# Altium schematic symbol library KN_ECART.SchLib: 34 symbols
Pins are listed as number, name and electrical type; pins without a type are passive.

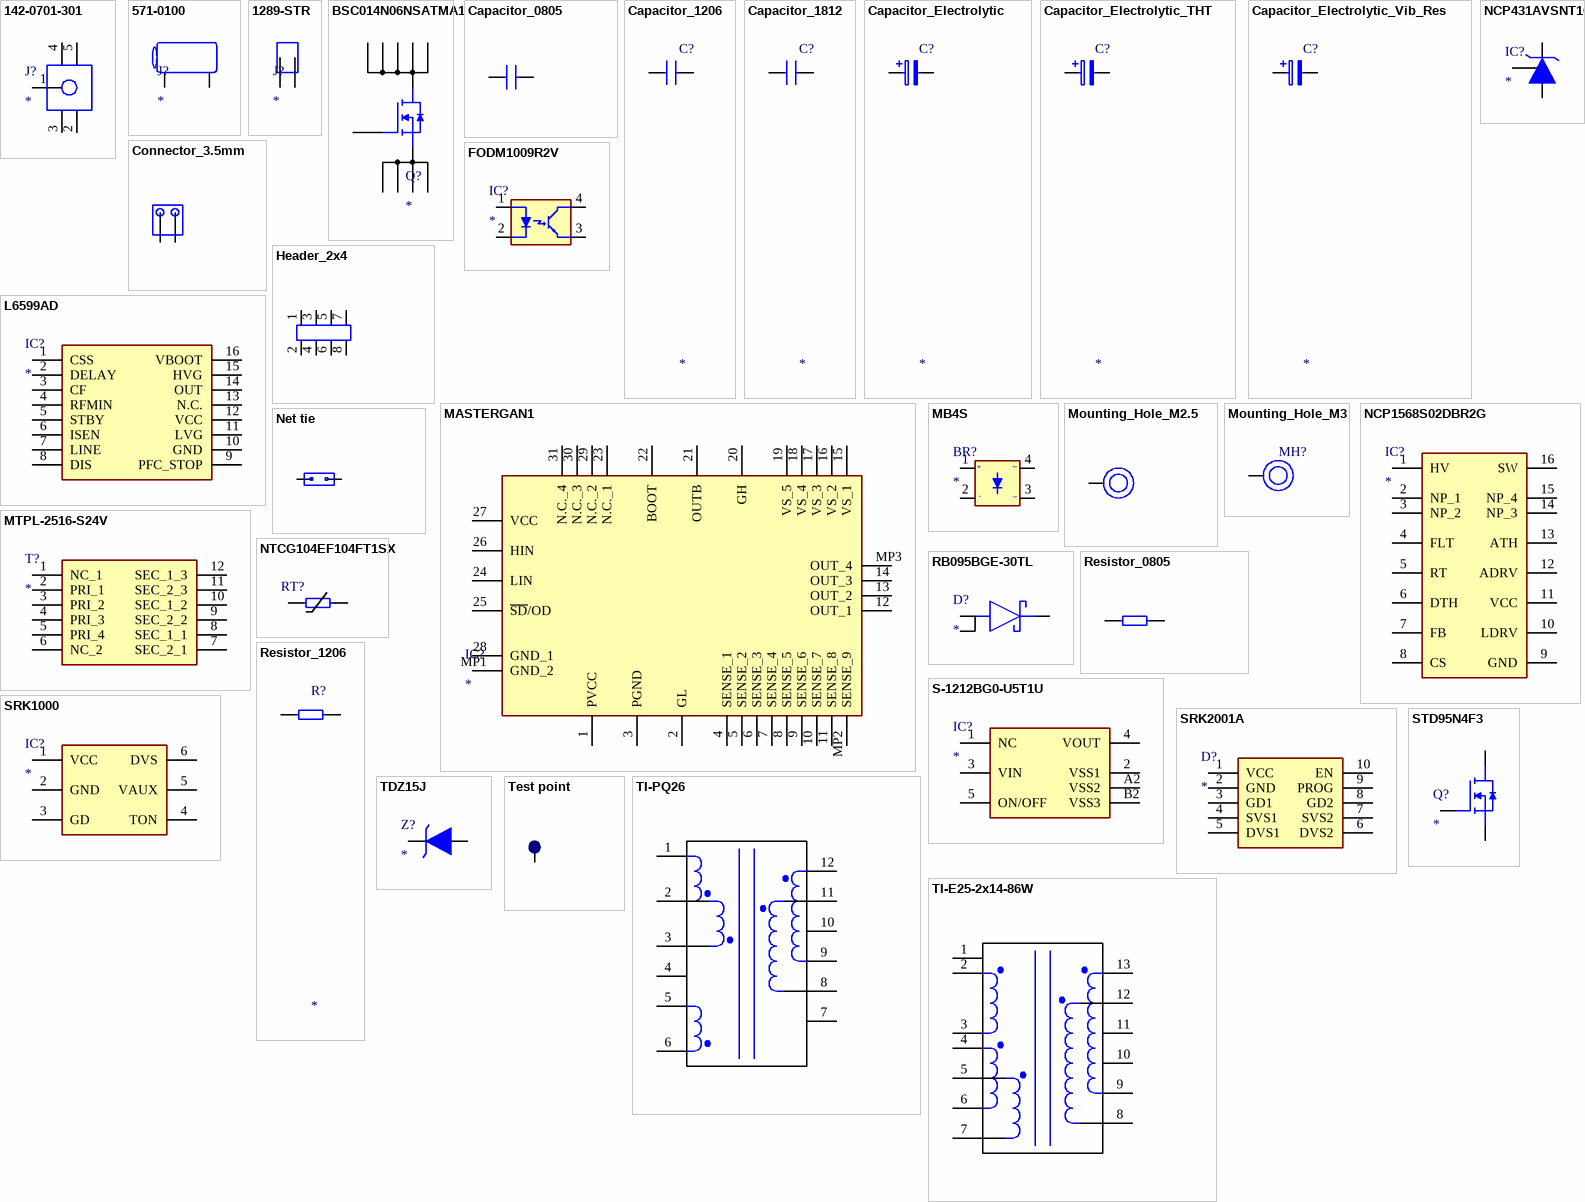
[diagram p0: symbols 142-0701-301 to TI­E25­2x14­86W]

## 142-0701-301
designator J?
Connector; Manufacturer_Name: Cinch Connectivity Solutions; Manufacturer_Part_Number: 142-0701-301; Datasheet Link: https://datasheet.datasheetarchive.com/originals/distributors/Datasheets_SAMA/2ec9b041f970d014d2778887508fd87c.pdf; Height: 9.779mm; Mouser Part Number: 530-142-0701-301; Mouser Price/Stock: https://www.mouser.co.uk/ProductDetail/Johnson-Cinch-Connectivity-Solutions/142-0701-301?qs=VqHsQWpF6un5h9kBF%252BTxDw%3D%3D; Arrow Part Number: 142-0701-301; Arrow Price/Stock: https://www.arrow.com/en/products/142-0701-301/cinch-connectivity-solutions?region=nac
footprint 1420701301
pins: 1, 2, 3, 4, 5

## 571-0100
designator J?
Connector; Manufacturer_Name: DELTRON COMPONENTS; Manufacturer_Part_Number: 571-0100; Datasheet Link: https://www.dem-uk.com/deltron-components/Data/Product_Downloads/deltron-571-0100-4mm-90deg-single-socket-data.pdf; Height: 12.4mm; Mouser Part Number: 164-6218; Mouser Price/Stock: https://www.mouser.co.uk/ProductDetail/Deltron/571-0100?qs=E2gf03EXmtoqC8%2FBhoPdrg%3D%3D
footprint 5710100
pins: 1, 2 (power)

## 1289-STR
designator J?
Connector; Manufacturer_Name: Keystone Electronics; Manufacturer_Part_Number: 1289-STR; Datasheet Link: https://www.mouser.com/datasheet/2/215/Keystone_Electronics_12182018_1289-ST-1510776.pdf; Height: 14.37mm; Mouser Part Number: 534-1289-STR; Mouser Price/Stock: https://www.mouser.co.uk/ProductDetail/Keystone-Electronics/1289-STR?qs=0lSvoLzn4L%252BMUIbPVNHg8g%3D%3D
footprint 1289STR
pins: 1, 2

## BSC014N06NSATMA1
designator Q?
MOSFET (N-Channel); Manufacturer_Name: Infineon; Manufacturer_Part_Number: BSC014N06NSATMA1; Datasheet Link: http://www.farnell.com/datasheets/1849651.html; Height: 1.1mm; Mouser Part Number: 726-BSC014N06NSATMA1; Mouser Price/Stock: https://www.mouser.co.uk/ProductDetail/Infineon-Technologies/BSC014N06NSATMA1?qs=K00xGehIljshgUA78G26tg%3D%3D; Arrow Part Number: BSC014N06NSATMA1; Arrow Price/Stock: https://www.arrow.com/en/products/bsc014n06nsatma1/infineon-technologies-ag
footprint BSC010N04LS6ATMA1
pins: 1 S_1, 2 S_2, 3 S_3, 4 G, 5 D_1, 6 D_2, 7 D_3, 8 D_4, 9 D_5, 10 S_4

## Capacitor_0805
designator C?
Capacitor - Standard SMD; Capacitance: *; Voltage: *; MPN: *
footprint Capacitor_0805 (Capacitor - standard SMD)
pins: 1, 2

## Capacitor_1206
designator C?
Capacitor - Standard SMD; Capacitance: *; Voltage: *; MPN: *
footprint Capcitor_1206 (Capacitor - Stnadard SMD)
pins: 1, 2

## Capacitor_1812
designator C?
Capacitor - Standard SMD; Capacitance: *; Voltage: *; MPN: *
footprint Capacitor_1812 (Capacitor - Stnadard SMD)
pins: 1, 2

## Capacitor_Electrolytic
designator C?
Capacitor - Electrolytic  SMD; Capacitance: *; Voltage: *; MPN: *
footprint Capacitor_Electrolytic (Footprint not found)
pins: 1, 2

## Capacitor_Electrolytic_THT
designator C?
Capacitor - Electrolytic  THT; Capacitance: *; Voltage: *; MPN: *
footprint CAPPRD500W60D1300H2700
pins: 1, 2

## Capacitor_Electrolytic_Vib_Res
designator C?
Capacitor - Electrolytic  SMD; Capacitance: *; Voltage: *; MPN: *
footprint Capacitor_Electrolytic_Vib_Res (Capacitor _ Electrolytic SMD)
pins: 1, 2

## Connector_3.5mm
designator J?
Value: *; HelpURL: *; MPN: *
footprint Connector_3.5 (Connector)
pins: 1, 2

## FODM1009R2V
designator IC?
Integrated Circuit; Manufacturer_Name: onsemi; Manufacturer_Part_Number: FODM1009R2V; Datasheet Link: https://componentsearchengine.com/Datasheets/1/FODM1009R2V.pdf; Height: 2.4mm; Mouser Part Number: 863-FODM1009R2V; Mouser Price/Stock: https://www.mouser.co.uk/ProductDetail/onsemi/FODM1009R2V?qs=d0WKAl%252BL4Kbb4VetG0t5Tw%3D%3D; Arrow Part Number: FODM1009R2V; Arrow Price/Stock: https://www.arrow.com/en/products/fodm1009r2v/on-semiconductor?region=nac
footprint FODM1009R2V
pins: 1 A, 2 K, 3 E, 4 C

## Header_2x4
designator J?
HelpURL: *; MPN: *
footprint Header_2x4 (Goldpins Male)
pins: 1, 2, 3, 4, 5, 6, 7, 8

## L6599AD
designator IC?
Integrated Circuit; Manufacturer_Name: STMicroelectronics; Manufacturer_Part_Number: L6599AD; Datasheet Link: https://www.st.com/resource/en/datasheet/l6599a.pdf; Height: 1.75mm; Mouser Part Number: 511-L6599AD; Mouser Price/Stock: https://www.mouser.co.uk/ProductDetail/STMicroelectronics/L6599AD?qs=7o0qgsFWxcZfFVshD8Fr5g%3D%3D; Arrow Part Number: L6599AD; Arrow Price/Stock: https://www.arrow.com/en/products/l6599ad/stmicroelectronics?region=nac
footprint SOIC127P600X175-16N
pins: 1 CSS, 2 DELAY, 3 CF, 4 RFMIN, 5 STBY, 6 ISEN, 7 LINE, 8 DIS, 9 PFC_STOP, 10 GND, 11 LVG, 12 VCC, 13 N.C., 14 OUT, 15 HVG, 16 VBOOT

## MASTERGAN1
designator IC?
Integrated Circuit; Manufacturer_Name: STMicroelectronics; Manufacturer_Part_Number: MASTERGAN1; Datasheet Link: https://www.mouser.com/datasheet/2/389/mastergan1-1893186.pdf; Height: 1mm; Mouser Part Number: 511-MASTERGAN1; Mouser Price/Stock: https://www.mouser.co.uk/ProductDetail/STMicroelectronics/MASTERGAN1?qs=hWgE7mdIu5TUQlvSzk235A%3D%3D; Arrow Part Number: MASTERGAN1; Arrow Price/Stock: https://www.arrow.com/en/products/mastergan1/stmicroelectronics?region=nac
footprint MASTERGAN1
pins: 1 PVCC, 2 GL, 3 PGND, 4 SENSE_1, 5 SENSE_2, 6 SENSE_3, 7 SENSE_4, 8 SENSE_5, 9 SENSE_6, 10 SENSE_7, 11 SENSE_8, 12 OUT_1, 13 OUT_2, 14 OUT_3, 15 VS_1, 16 VS_2, 17 VS_3, 18 VS_4, 19 VS_5, 20 GH, 21 OUTB, 22 BOOT, 23 N.C._1, 24 LIN, 25 ~{SD}/OD, 26 HIN, 27 VCC, 28 GND_1, 29 N.C._2, 30 N.C._3, 31 N.C._4, MP1 GND_2, MP2 SENSE_9, MP3 OUT_4

## MB4S
designator BR?
Bridge Rectifier; Manufacturer_Name: onsemi; Manufacturer_Part_Number: MB4S; Datasheet Link: http://www.onsemi.com/pub/Collateral/MB8S-D.PDF; Height: 2.9mm; Mouser Part Number: 512-MB4S; Mouser Price/Stock: https://www.mouser.co.uk/ProductDetail/onsemi-Fairchild/MB4S?qs=DPwKKv7J1fyzyqMN%2FwPoFQ%3D%3D; Arrow Part Number: MB4S; Arrow Price/Stock: https://www.arrow.com/en/products/mb4s/on-semiconductor?region=europe
footprint SOP245P670X290-4N
pins: 1, 2, 3, 4
text: +; ~; -

## Mounting_Hole_M2.5
designator MH?  (value not drawn)  (no BOM)
footprint Mounting_Hole_M2.5
pins: 1

## Mounting_Hole_M3
designator MH?  (value not drawn)  (no BOM)
footprint Mounting_Hole_M3
pins: 1

## MTPL-2516-S24V
designator T?
Transformer; Manufacturer_Name: Vishay; Manufacturer_Part_Number: MTPL-2516-S24V; Datasheet Link: https://componentsearchengine.com/Datasheets/2/MTPL-2516-S24V.pdf; Height: 16.51mm; Mouser Part Number: 70-MTPL-2516-S24V; Mouser Price/Stock: https://www.mouser.co.uk/ProductDetail/Vishay-Dale/MTPL-2516-S24V?qs=wd5RIQLrsJgVmtJW6evrjA%3D%3D
footprint MTPL2516S24V
pins: 1 NC_1, 2 PRI_1, 3 PRI_2, 4 PRI_3, 5 PRI_4, 6 NC_2, 7 SEC_2_1, 8 SEC_1_1, 9 SEC_2_2, 10 SEC_1_2, 11 SEC_2_3, 12 SEC_1_3

## NCP431AVSNT1G
designator IC?
Programmable Precision / Reference; Manufacturer_Name: onsemi; Manufacturer_Part_Number: NCP431AVSNT1G; Datasheet Link: http://www.onsemi.com/pub/Collateral/NCP431-D.PDF; Height: 1.11mm; Mouser Part Number: 863-NCP431AVSNT1G; Mouser Price/Stock: https://www.mouser.com/Search/Refine.aspx?Keyword=863-NCP431AVSNT1G; Arrow Part Number: NCP431AVSNT1G; Arrow Price/Stock: https://www.arrow.com/en/products/ncp431avsnt1g/on-semiconductor
footprint SOT96P237X111-3N
pins: 1 REF, 2 K, 3 A

## NCP1568S02DBR2G
designator IC?
Integrated Circuit; Manufacturer_Name: onsemi; Manufacturer_Part_Number: NCP1568S02DBR2G; Datasheet Link: https://datasheet.datasheetarchive.com/originals/distributors/Datasheets_SAMA/e6c73cfd9b14743cc4dd16ca5df3e455.pdf; Height: 1.35mm; Mouser Part Number: 863-NCP1568S02DBR2G; Mouser Price/Stock: https://www.mouser.co.uk/ProductDetail/onsemi/NCP1568S02DBR2G?qs=BJlw7L4Cy7%252Bni9d8vX6s0A%3D%3D; Arrow Part Number: NCP1568S02DBR2G; Arrow Price/Stock: https://www.arrow.com/en/products/ncp1568s02dbr2g/on-semiconductor?region=nac
footprint SOIC127P600X175-16N
pins: 1 HV, 2 NP_1, 3 NP_2, 4 FLT, 5 RT, 6 DTH, 7 FB, 8 CS, 9 GND, 10 LDRV, 11 VCC, 12 ADRV, 13 ATH, 14 NP_3, 15 NP_4, 16 SW

## Net tie
designator NT?  (net tie, no BOM)
footprint Net tie (Net tie - SMD short)
pins: 1, 2

## NTCG104EF104FT1SX
designator RT?  (value not drawn)
Thermistor; Manufacturer_Name: TDK; Manufacturer_Part_Number: NTCG104EF104FT1SX; Datasheet Link: https://product.tdk.com/system/files/dam/doc/product/sensor/ntc/chip-ntc-thermistor/catalog/tpd_automotive_ntc-thermistor_ntcg_en.pdf; Height: 0.55mm; Mouser Part Number: 810-NTC104EF104FT1SX; Mouser Price/Stock: https://www.mouser.co.uk/ProductDetail/TDK/NTCG104EF104FT1SX?qs=cNoPOocMWw25zdFQn%252B2tmg%3D%3D; Arrow Part Number: NTCG104EF104FT1SX; Arrow Price/Stock: https://www.arrow.com/en/products/ntcg104ef104ft1sx/tdk
footprint THRMC1005X55N
pins: 1, 2

## RB095BGE-30TL
designator D?
Diode; Manufacturer_Name: ROHM Semiconductor; Manufacturer_Part_Number: RB095BGE-30TL; Datasheet Link: https://fscdn.rohm.com/en/products/databook/datasheet/discrete/diode/schottky_barrier/rb095bge-30tl-e.pdf; Mouser Part Number: 755-RB095BGE-30TL; Mouser Price/Stock: https://www.mouser.co.uk/ProductDetail/ROHM-Semiconductor/RB095BGE-30TL?qs=gTYE2QTfZfT0xMzgoJJZow%3D%3D
footprint RD3P175SNFRATL
pins: 1 A_1, 2 K, 3 A_2

## Resistor_0805
designator R?
Resistor - Standard SMD; Resistance: *; Power rate: *; MPN: *
footprint Resistor_0805 (Resistor - Standard SMD)
pins: 1, 2

## Resistor_1206
designator R?
Resistor - Standard SMD; Resistance: *; Power rate: *; MPN: *
footprint Resistor_1206 (Resistor - Stnadard SMD)
pins: 1, 2

## S-1212BG0-U5T1U
designator IC?
Integrated Circuit; Manufacturer_Name: ABLIC Inc.; Manufacturer_Part_Number: S-1212BG0-U5T1U; Datasheet Link: https://www.mouser.com/datasheet/2/360/S1212B_D_E-1480071.pdf; Height: 1.6mm; Mouser Part Number: 628-S-1212BG0-U5T1U; Mouser Price/Stock: https://www.mouser.co.uk/ProductDetail/ABLIC/S-1212BG0-U5T1U?qs=PqoDHHvF648vInS7ukjfAw%3D%3D
footprint S1212BG0U5T1U
pins: 1 NC, 2 VSS1, 3 VIN, 4 VOUT, 5 ON/OFF, A2 VSS2, B2 VSS3

## SRK1000
designator IC?
Integrated Circuit; Manufacturer_Name: STMicroelectronics; Manufacturer_Part_Number: SRK1000; Datasheet Link: https://www.st.com/resource/en/datasheet/srk1000.pdf; Height: 1.45mm; Mouser Part Number: 511-SRK1000; Mouser Price/Stock: https://www.mouser.co.uk/ProductDetail/STMicroelectronics/SRK1000?qs=byeeYqUIh0P1pUk%2FLXsjaA%3D%3D; Arrow Part Number: SRK1000; Arrow Price/Stock: https://www.arrow.com/en/products/srk1000/stmicroelectronics
footprint SOT95P280X145-6N
pins: 1 VCC, 2 GND, 3 GD, 4 TON, 5 VAUX, 6 DVS

## SRK2001A
designator D?
Diode; Manufacturer_Name: STMicroelectronics; Manufacturer_Part_Number: SRK2001A; Datasheet Link: https://componentsearchengine.com/Datasheets/1/SRK2001A.pdf; Height: 1.75mm; Mouser Part Number: 511-SRK2001A; Mouser Price/Stock: https://www.mouser.co.uk/ProductDetail/STMicroelectronics/SRK2001A?qs=aVyJF2WnouTzNJDK1aOmdg%3D%3D; Arrow Part Number: SRK2001A; Arrow Price/Stock: https://www.arrow.com/en/products/srk2001a/stmicroelectronics
footprint SOIC127P600X175-8N
pins: 1 VCC, 2 GND, 3 GD1, 4 SVS1, 5 DVS1, 6 DVS2, 7 SVS2, 8 GD2, 9 PROG, 10 EN

## STD95N4F3
designator Q?
MOSFET (N-Channel); Manufacturer_Name: STMicroelectronics; Manufacturer_Part_Number: STD95N4F3; Datasheet Link: https://www.st.com/resource/en/datasheet/std95n4f3.pdf; Height: 2.4mm; Mouser Part Number: 511-STD95N4F3; Mouser Price/Stock: https://www.mouser.co.uk/ProductDetail/STMicroelectronics/STD95N4F3?qs=Djavi1aLnwoepdJqDxyf1g%3D%3D; Arrow Part Number: STD95N4F3; Arrow Price/Stock: https://www.arrow.com/en/products/std95n4f3/stmicroelectronics
footprint STD95N4F3
pins: 1 G, 2 S, 3 D

## TDZ15J
designator Z?
Zener Diode; Manufacturer_Name: Nexperia; Manufacturer_Part_Number: TDZ15J; Datasheet Link: https://assets.nexperia.com/documents/data-sheet/TDZXJ_SER.pdf; Height: 0.8mm; Mouser Price/Stock: https://www.mouser.co.uk/ProductDetail/Nexperia/TDZ3V3J115?qs=A1cBxND5mHI2cVlA%2FVFCtg%3D%3D; Arrow Part Number: TDZ3V3J,115; Arrow Price/Stock: https://www.arrow.com/en/products/tdz3v3j115/nexperia
footprint SODFL4725X105N
pins: 1 K, 2 A

## Test point
designator TP?  (no BOM)
footprint Test point (Test point SMD, 50 mil)
pins: 1

## TI-PQ26
designator T?
Transformer; MPN: TI-PQ26/20-EPR11; Value: TI-PQ26; HelpURL: https://dokumentacja.feryster.pl/rysuj.php?indeks=76996816298acf4170f50a7b81faccb4
footprint PQ26-20-K (Transformer)
pins: 1, 2, 3, 4, 5, 6, 7, 8, 9, 10, 11, 12

## TI­E25­2x14­86W
designator L?
Transformer; Value: *; HelpURL: *; MPN: *
footprint TI­E25­2x14­86W (Transformer)
pins: 1, 2, 3, 4, 5, 6, 7, 8, 9, 10, 11, 12, 13